# Altium footprint library 3dprinter_shield.PcbLib: 18 footprints (part 2 of 2)
Each footprint in its own frame and in the unit in brackets; x right, y up, seen from the top. Pads: shape width x height; smd on the part's side, far side on the other; paste and mask are expansions set on the pad; w line width, h text height; cw(c..) or ccw(c..) is an arc to the next point about the centre after c.
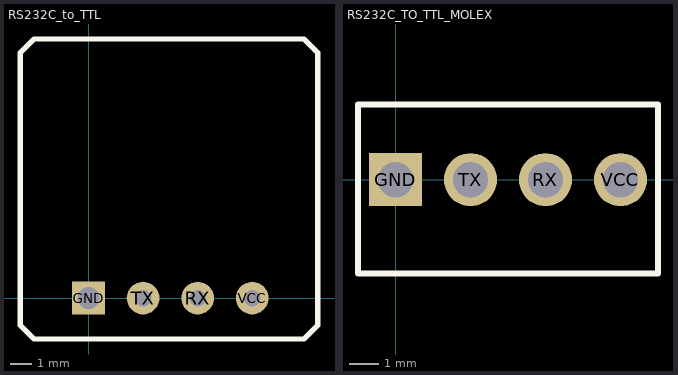
[diagram p1: the footprints below, top view; thin cyan lines are the x and y axes]

## RS232C_to_TTL [mil]
pads (4):
  rect 60x60 hole 40: GND(0,0)
  round 60 hole 30: RX(200,0) TX(100,0) VCC(300,0)
Top Overlay:
  lines w10: -125,-50 -125,450 -100,475 395,475 420,450 420,-50 395,-75 -100,-75 -125,-50

## RS232C_TO_TTL_MOLEX [mm]
pads (4):
  rect 1.8x1.8 hole 1.2: GND(0,0)
  round 1.8 hole 1.2: RX(5.08,0) TX(2.54,0) VCC(7.62,0)
Top Overlay:
  lines w0.2: -1.27,-3.175 -1.27,-1.905 -1.27,1.27 -1.27,2.54 8.89,2.54 8.89,-3.175 -1.27,-3.175